# EAGLE library part LED_HDSM443 (library akita)
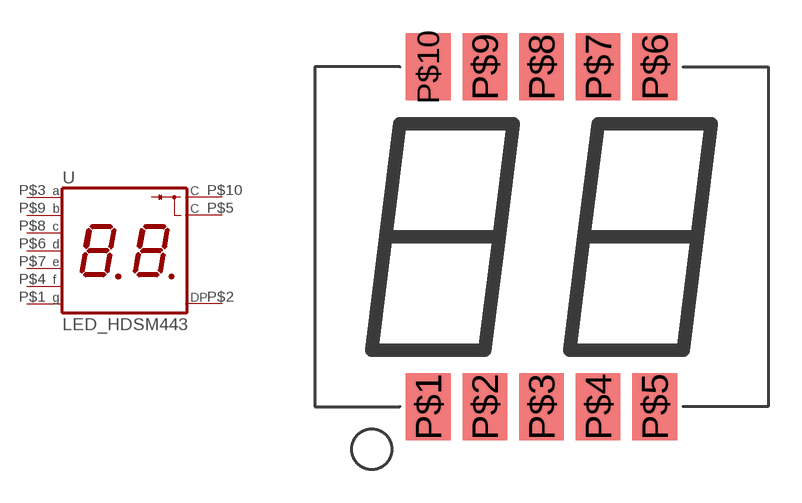
[diagram p50: symbol with the pads of LED7_2DIG_SMD; footprint LED7_2DIG_SMD]

Designator prefix -

## LED_HDSM443  [LED7_2DIG_SMD]
P$1  G  pas
P$2  DP  pas
P$3  A  pas
P$4  F  pas
P$5  C  pas
P$6  D  pas
P$7  E  pas
P$8  C  pas
P$9  B  pas
P$10  C  pas

## Footprint LED7_2DIG_SMD (pad centres in mm)
AVAGO HDSM-443C (Common Cathode)
smd 2 x 3: P$1 -5.08,-7.62; P$2 -2.54,-7.62; P$3 0,-7.62; P$4 2.54,-7.62; P$5 5.08,-7.62; P$6 5.08,7.62; P$7 2.54,7.62; P$8 0,7.62; P$9 -2.54,7.62; P$10 -5.08,7.62